# Altium footprint library HLK-PM03_2020.PcbLib: 1 footprints
Each footprint in its own frame and in the unit in brackets; x right, y up, seen from the top. Pads: shape width x height; smd on the part's side, far side on the other; paste and mask are expansions set on the pad; w line width, h text height; cw(c..) or ccw(c..) is an arc to the next point about the centre after c.
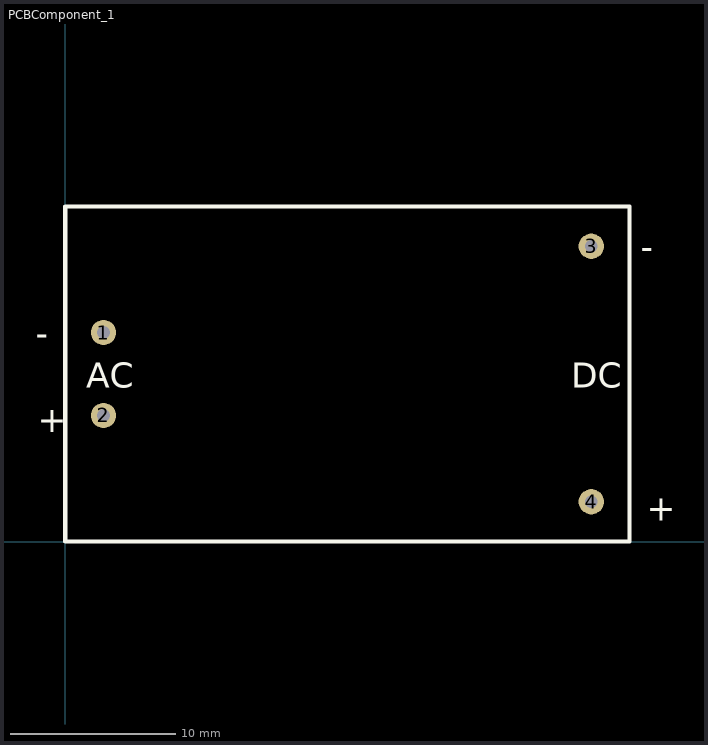
[diagram p0: the footprint, top view; thin cyan lines are the x and y axes]

## PCBComponent_1 [mil]
pads (4):
  round 60 hole 30: 1(90.55,496.06) 2(90.55,299.21) 3(1248.03,700.79) 4(1248.03,94.49)
Top Overlay:
  lines w10: 0,0 1338.58,0 1338.58,795.28 0,795.28 0,0
  text "-" at 1365,670 h60
  text "-" at -70,465 h60
  text "+" at -65,260 h60
  text "+" at 1380,50 h60
  text "AC" at 50,365 h60
  text "DC" at 1200,365 h60